# Altium footprint library PCAL6416APW.PcbLib: 3 footprints
Each footprint in its own frame and in the unit in brackets; x right, y up, seen from the top. Pads: shape width x height; smd on the part's side, far side on the other; paste and mask are expansions set on the pad; w line width, h text height; cw(c..) or ccw(c..) is an arc to the next point about the centre after c.
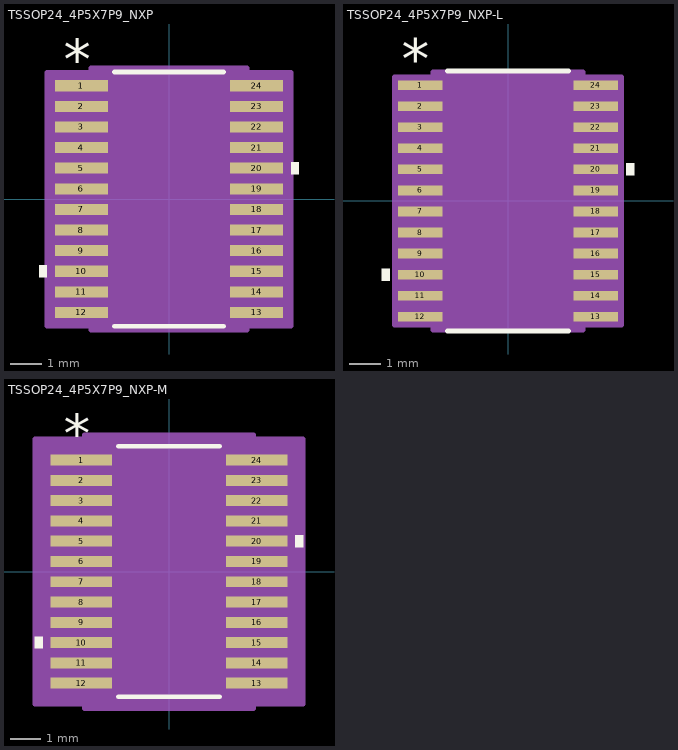
[diagram p0: the footprints below, top view; thin cyan lines are the x and y axes]

## TSSOP24_4P5X7P9_NXP [mil]
pads (24):
  rect 67x14 smd paste+0 mask+0: 1(-110.5,143) 2(-110.5,117) 3(-110.5,91) 4(-110.5,65) 5(-110.5,39) 6(-110.5,13) 7(-110.5,-13) 8(-110.5,-39) 9(-110.5,-65) 10(-110.5,-91) 11(-110.5,-117) 12(-110.5,-143) 13(110.5,-143) 14(110.5,-117) 15(110.5,-91) 16(110.5,-65) 17(110.5,-39) 18(110.5,-13) 19(110.5,13) 20(110.5,39) 21(110.5,65) 22(110.5,91) 23(110.5,117) 24(110.5,143)
Top Overlay:
  region: -154,-83.5 -164,-83.5 -164,-98.5 -154,-98.5
  region: 154,46.5 164,46.5 164,31.5 154,31.5
  lines w6: -69.17,-160.5 69.17,-160.5 ; -69.17,160.5 69.17,160.5
  text "*" at -133,152 h50
Mechanical 13:
  lines w0: -12,155.5 ccw(c0,155.5) 12,155.5
  lines w1: -130,-149 -130,-137 -88.5,-137 -88.5,-149 -130,-149 ; -130,-123 -130,-111 -88.5,-111 -88.5,-123 -130,-123 ; -130,-97 -130,-85 -88.5,-85 -88.5,-97 -130,-97 ; -130,-71 -130,-59 -88.5,-59 -88.5,-71 -130,-71 ; -130,-45 -130,-33 -88.5,-33 -88.5,-45 -130,-45 ; -130,-19 -130,-7 -88.5,-7 -88.5,-19 -130,-19 ; -130,7 -130,19 -88.5,19 -88.5,7 -130,7 ; -130,33 -130,45 -88.5,45 -88.5,33 -130,33 ; -130,59 -130,71 -88.5,71 -88.5,59 -130,59 ; -130,85 -130,97 -88.5,97 -88.5,85 -130,85 ; -130,111 -130,123 -88.5,123 -88.5,111 -130,111 ; -130,137 -130,149 -88.5,149 -88.5,137 -130,137 ; -88.5,-155.5 88.5,-155.5 88.5,155.5 -88.5,155.5 -88.5,-155.5 ; 88.5,-149 88.5,-137 130,-137 130,-149 88.5,-149 ; 88.5,-123 88.5,-111 130,-111 130,-123 88.5,-123 ; 88.5,-97 88.5,-85 130,-85 130,-97 88.5,-97 ; 88.5,-71 88.5,-59 130,-59 130,-71 88.5,-71 ; 88.5,-45 88.5,-33 130,-33 130,-45 88.5,-45 ; 88.5,-19 88.5,-7 130,-7 130,-19 88.5,-19 ; 88.5,7 88.5,19 130,19 130,7 88.5,7 ; 88.5,33 88.5,45 130,45 130,33 88.5,33 ; 88.5,59 88.5,71 130,71 130,59 88.5,59 ; 88.5,85 88.5,97 130,97 130,85 88.5,85 ; 88.5,111 88.5,123 130,123 130,111 88.5,111 ; 88.5,137 88.5,149 130,149 130,137 88.5,137
  text "*" at -86,102.5 h50
Mechanical 15:
  region: -98.5,-160 -154,-160 -154,160 -98.5,160 -98.5,165.5 98.5,165.5 98.5,160 154,160 154,-160 98.5,-160 98.5,-165.5 -98.5,-165.5
  lines w6: -154,-160 -154,160 -98.5,160 -98.5,165.5 98.5,165.5 98.5,160 154,160 154,-160 98.5,-160 98.5,-165.5 -98.5,-165.5 -98.5,-160 -154,-160
3D body "TSSOP24_4P5X7P9_NXP.step": height 43.11, standoff 0, extent -130,-155.51 130,155.51

## TSSOP24_4P5X7P9_NXP-L [mil]
pads (24):
  rect 55x12 smd paste+0 mask+0: 1(-108.5,143) 2(-108.5,117) 3(-108.5,91) 4(-108.5,65) 5(-108.5,39) 6(-108.5,13) 7(-108.5,-13) 8(-108.5,-39) 9(-108.5,-65) 10(-108.5,-91) 11(-108.5,-117) 12(-108.5,-143) 13(108.5,-143) 14(108.5,-117) 15(108.5,-91) 16(108.5,-65) 17(108.5,-39) 18(108.5,-13) 19(108.5,13) 20(108.5,39) 21(108.5,65) 22(108.5,91) 23(108.5,117) 24(108.5,143)
Top Overlay:
  region: -146,-83.5 -156,-83.5 -156,-98.5 -146,-98.5
  region: 146,46.5 156,46.5 156,31.5 146,31.5
  lines w6: -74.73,-160.5 74.73,-160.5 ; -74.73,160.5 74.73,160.5
  text "*" at -131,150 h50
Mechanical 13:
  lines w0: -12,155.5 ccw(c0,155.5) 12,155.5
  lines w1: -130,-149 -130,-137 -88.5,-137 -88.5,-149 -130,-149 ; -130,-123 -130,-111 -88.5,-111 -88.5,-123 -130,-123 ; -130,-97 -130,-85 -88.5,-85 -88.5,-97 -130,-97 ; -130,-71 -130,-59 -88.5,-59 -88.5,-71 -130,-71 ; -130,-45 -130,-33 -88.5,-33 -88.5,-45 -130,-45 ; -130,-19 -130,-7 -88.5,-7 -88.5,-19 -130,-19 ; -130,7 -130,19 -88.5,19 -88.5,7 -130,7 ; -130,33 -130,45 -88.5,45 -88.5,33 -130,33 ; -130,59 -130,71 -88.5,71 -88.5,59 -130,59 ; -130,85 -130,97 -88.5,97 -88.5,85 -130,85 ; -130,111 -130,123 -88.5,123 -88.5,111 -130,111 ; -130,137 -130,149 -88.5,149 -88.5,137 -130,137 ; -88.5,-155.5 88.5,-155.5 88.5,155.5 -88.5,155.5 -88.5,-155.5 ; 88.5,-149 88.5,-137 130,-137 130,-149 88.5,-149 ; 88.5,-123 88.5,-111 130,-111 130,-123 88.5,-123 ; 88.5,-97 88.5,-85 130,-85 130,-97 88.5,-97 ; 88.5,-71 88.5,-59 130,-59 130,-71 88.5,-71 ; 88.5,-45 88.5,-33 130,-33 130,-45 88.5,-45 ; 88.5,-19 88.5,-7 130,-7 130,-19 88.5,-19 ; 88.5,7 88.5,19 130,19 130,7 88.5,7 ; 88.5,33 88.5,45 130,45 130,33 88.5,33 ; 88.5,59 88.5,71 130,71 130,59 88.5,59 ; 88.5,85 88.5,97 130,97 130,85 88.5,85 ; 88.5,111 88.5,123 130,123 130,111 88.5,111 ; 88.5,137 88.5,149 130,149 130,137 88.5,137
  text "*" at -86,102.5 h50
Mechanical 15:
  region: -92.5,-153 -140,-153 -140,153 -92.5,153 -92.5,159.5 92.5,159.5 92.5,153 140,153 140,-153 92.5,-153 92.5,-159.5 -92.5,-159.5
  lines w6: -140,-153 -140,153 -92.5,153 -92.5,159.5 92.5,159.5 92.5,153 140,153 140,-153 92.5,-153 92.5,-159.5 -92.5,-159.5 -92.5,-153 -140,-153
3D body "TSSOP24_4P5X7P9_NXP.step": height 43.11, standoff 0, extent -130,-155.51 130,155.51

## TSSOP24_4P5X7P9_NXP-M [mil]
pads (24):
  rect 79x14 smd paste+0 mask+0: 1(-112.5,143) 2(-112.5,117) 3(-112.5,91) 4(-112.5,65) 5(-112.5,39) 6(-112.5,13) 7(-112.5,-13) 8(-112.5,-39) 9(-112.5,-65) 10(-112.5,-91) 11(-112.5,-117) 12(-112.5,-143) 13(112.5,-143) 14(112.5,-117) 15(112.5,-91) 16(112.5,-65) 17(112.5,-39) 18(112.5,-13) 19(112.5,13) 20(112.5,39) 21(112.5,65) 22(112.5,91) 23(112.5,117) 24(112.5,143)
Top Overlay:
  region: -162,-83.5 -172,-83.5 -172,-98.5 -162,-98.5
  region: 162,46.5 172,46.5 172,31.5 162,31.5
  lines w6: -65.17,-160.5 65.17,-160.5 ; -65.17,160.5 65.17,160.5
  text "*" at -135,152 h50
Mechanical 13:
  lines w0: -12,155.5 ccw(c0,155.5) 12,155.5
  lines w1: -130,-149 -130,-137 -88.5,-137 -88.5,-149 -130,-149 ; -130,-123 -130,-111 -88.5,-111 -88.5,-123 -130,-123 ; -130,-97 -130,-85 -88.5,-85 -88.5,-97 -130,-97 ; -130,-71 -130,-59 -88.5,-59 -88.5,-71 -130,-71 ; -130,-45 -130,-33 -88.5,-33 -88.5,-45 -130,-45 ; -130,-19 -130,-7 -88.5,-7 -88.5,-19 -130,-19 ; -130,7 -130,19 -88.5,19 -88.5,7 -130,7 ; -130,33 -130,45 -88.5,45 -88.5,33 -130,33 ; -130,59 -130,71 -88.5,71 -88.5,59 -130,59 ; -130,85 -130,97 -88.5,97 -88.5,85 -130,85 ; -130,111 -130,123 -88.5,123 -88.5,111 -130,111 ; -130,137 -130,149 -88.5,149 -88.5,137 -130,137 ; -88.5,-155.5 88.5,-155.5 88.5,155.5 -88.5,155.5 -88.5,-155.5 ; 88.5,-149 88.5,-137 130,-137 130,-149 88.5,-149 ; 88.5,-123 88.5,-111 130,-111 130,-123 88.5,-123 ; 88.5,-97 88.5,-85 130,-85 130,-97 88.5,-97 ; 88.5,-71 88.5,-59 130,-59 130,-71 88.5,-71 ; 88.5,-45 88.5,-33 130,-33 130,-45 88.5,-45 ; 88.5,-19 88.5,-7 130,-7 130,-19 88.5,-19 ; 88.5,7 88.5,19 130,19 130,7 88.5,7 ; 88.5,33 88.5,45 130,45 130,33 88.5,33 ; 88.5,59 88.5,71 130,71 130,59 88.5,59 ; 88.5,85 88.5,97 130,97 130,85 88.5,85 ; 88.5,111 88.5,123 130,123 130,111 88.5,111 ; 88.5,137 88.5,149 130,149 130,137 88.5,137
  text "*" at -86,102.5 h50
Mechanical 15:
  region: -108.5,-170 -172,-170 -172,170 -108.5,170 -108.5,175.5 108.5,175.5 108.5,170 172,170 172,-170 108.5,-170 108.5,-175.5 -108.5,-175.5
  lines w6: -172,-170 -172,170 -108.5,170 -108.5,175.5 108.5,175.5 108.5,170 172,170 172,-170 108.5,-170 108.5,-175.5 -108.5,-175.5 -108.5,-170 -172,-170
3D body "TSSOP24_4P5X7P9_NXP.step": height 43.11, standoff 0, extent -130,-155.51 130,155.51